# Altium footprint library WE-RCIS.PcbLib: 4 footprints
Each footprint in its own frame and in the unit in brackets; x right, y up, seen from the top. Pads: shape width x height; smd on the part's side, far side on the other; paste and mask are expansions set on the pad; w line width, h text height; cw(c..) or ccw(c..) is an arc to the next point about the centre after c.
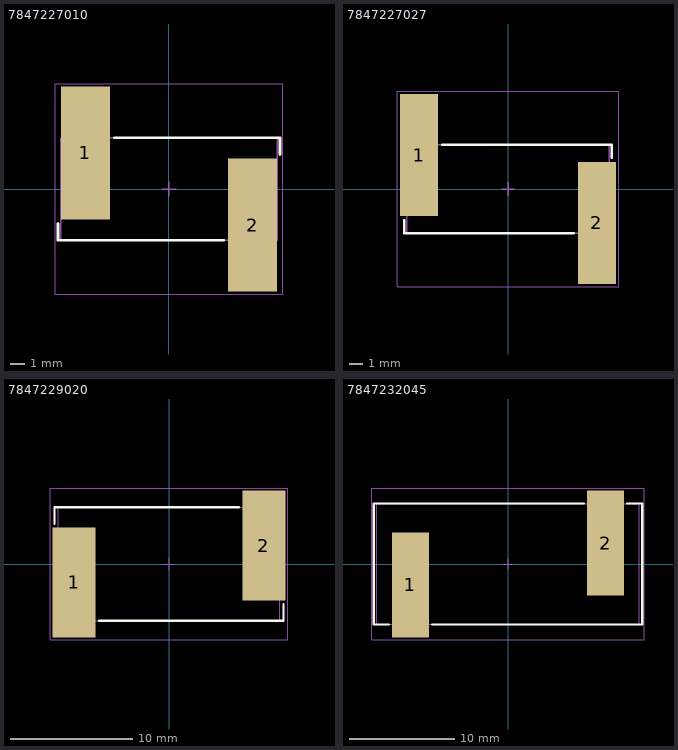
[diagram p0: the footprints below, top view; thin cyan lines are the x and y axes]

## 7847227010 [mm] "Rod Core Inductor SMT, body 15x7.1mm"
height 7.8
pads (2):
  rect 3.4x9.2 smd: 1(-5.8,2.5) 2(5.8,-2.5)
Top Overlay:
  lines w0.2: -7.7,-2.4 -7.7,-3.55 3.8,-3.55 ; -3.8,3.55 7.7,3.55 7.7,2.4
Top Assembly:
  lines w0.1: -6.5,3.55 -6.5,5 -5.1,5 -5.1,3.55 ; 5.1,-3.55 5.1,-5 6.5,-5 6.5,-3.55 ; -7.5,-3.55 7.5,-3.55 7.5,3.55 -7.5,3.55 -7.5,-3.55
Top Designator:
  text ".Designator" at -3.647,-0.357 h1
Top Courtyard:
  lines w0.05: -7.9,-7.3 7.9,-7.3 7.9,7.3 -7.9,7.3 -7.9,-7.3
Top Component Center:
  lines w0.1: -0.5,0 0.5,0 ; 0,-0.5 0,0.5
3D body "7847227010.stp": height 7.85, standoff 0.05, extent -7.5,-5 7.5,5

## 7847227027 [mm] "Rod Core Inductor SMT, body 14.9x6.5mm"
height 7
pads (2):
  rect 2.8x9 smd: 1(-6.55,2.5) 2(6.55,-2.5)
Top Overlay:
  lines w0.2: -7.65,-2.3 -7.65,-3.25 4.85,-3.25 ; -4.85,3.25 7.65,3.25 7.65,2.3
Top Assembly:
  lines w0.1: -7,3.25 -7,4.5 -6.1,4.5 -6.1,3.25 ; 6.1,-3.25 6.1,-4.5 7,-4.5 7,-3.25 ; -7.45,-3.25 7.45,-3.25 7.45,3.25 -7.45,3.25 -7.45,-3.25
Top Designator:
  text ".Designator" at -3.647,-0.357 h1
Top Courtyard:
  lines w0.05: -8.15,-7.2 -8.15,7.2 8.15,7.2 8.15,-7.2 -8.15,-7.2
Top Component Center:
  lines w0.1: -0.5,0 0.5,0 ; 0,-0.5 0,0.5
3D body "7847227027.stp": height 7, standoff 0, extent -7.45,-4.5 7.45,4.5

## 7847229020 [mm] "Rod Core Inductor SMT, body 18.1x9.3mm"
height 10
pads (2):
  rect 3.5x9 smd: 1(-7.75,-1.5) 2(7.75,1.5)
Top Overlay:
  lines w0.2: -9.35,3.3 -9.35,4.65 5.7,4.65 ; -5.7,-4.65 9.35,-4.65 9.35,-3.3
Top Assembly:
  lines w0.1: -9.05,-4.65 9.05,-4.65 9.05,4.65 -9.05,4.65 -9.05,-4.65
Top Designator:
  text ".Designator" at -3.647,-0.357 h1
Top Courtyard:
  lines w0.05: -9.7,-6.2 -9.7,6.2 9.7,6.2 9.7,-6.2 -9.7,-6.2
Top Component Center:
  lines w0.1: -0.5,0 0.5,0 ; 0,-0.5 0,0.5
3D body "7847229020.stp": height 10.03, standoff 0, extent -9.05,-4.574 9.05,4.574

## 7847232045 [mm] "Rod Core Inductor SMT, body 25x11.5mm"
height 11.85
pads (2):
  rect 3.5x10 smd: 1(-9.3,-2) 2(9.3,2)
Top Overlay:
  lines w0.2: -11.35,-5.75 -12.8,-5.75 -12.8,5.75 7.25,5.75 ; -7.25,-5.75 12.8,-5.75 12.8,5.75 11.35,5.75
Top Assembly:
  lines w0.1: -12.5,-5.75 -12.5,5.75 12.5,5.75 12.5,-5.75 -12.5,-5.75
Top Designator:
  text ".Designator" at -3.647,-0.357 h1
Top Courtyard:
  lines w0.05: -13,-7.2 13,-7.2 13,7.2 -13,7.2 -13,-7.2
Top Component Center:
  lines w0.1: -0.5,0 0.5,0 ; 0,-0.5 0,0.5
3D body "7847232045.stp": height 11.85, standoff 0, extent -12.5,-6.5 12.5,6.5